# EAGLE library part BH-6 (library gost_con_bh)
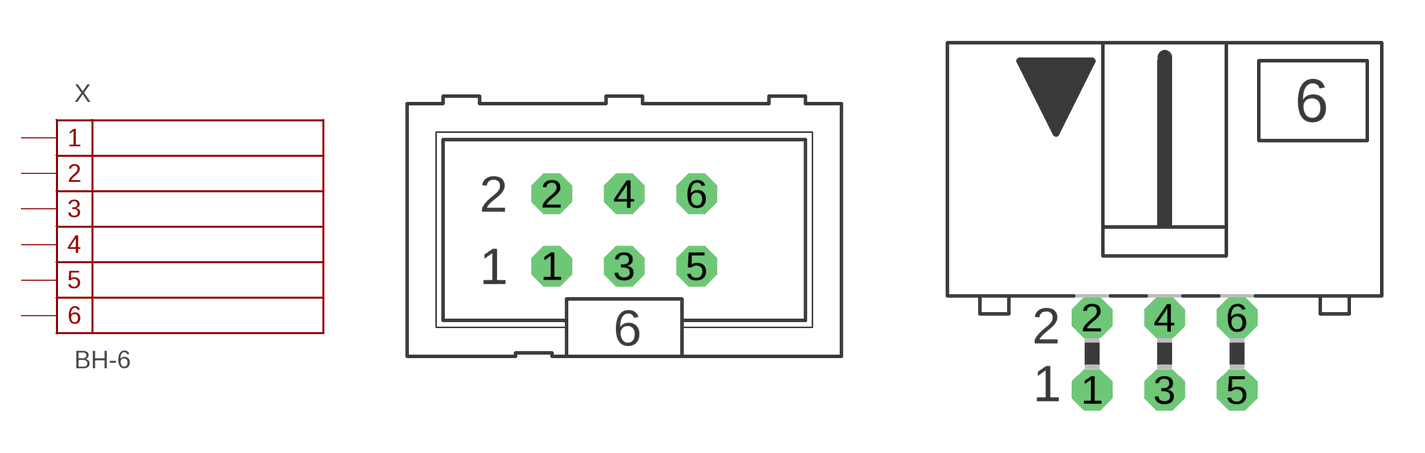
[diagram p9: symbol with the pads of BH-6; footprints BH-6, BH-6R]

Designator prefix X

## BH-6  [BH-6]
1  1
2  2
3  3
4  4
5  5
6  6

## BH-6R  [BH-6R]
Pads as for BH-6

## Footprint BH-6 (pad centres in mm)
Разъем BH-6 2.54mm
drill 0.914 octagon: 1 -2.54,-1.27; 2 -2.54,1.27; 3 0,-1.27; 4 0,1.27; 5 2.54,-1.27; 6 2.54,1.27

## Footprint BH-6R (pad centres in mm)
Разъем BH-6R 2.54mm
drill 0.914 octagon: 1 -2.54,-1.27; 2 -2.54,1.27; 3 0,-1.27; 4 0,1.27; 5 2.54,-1.27; 6 2.54,1.27